# Altium footprint library MT25QL256ABA1EW9-0SIT.PcbLib: 2 footprints
Each footprint in its own frame and in the unit in brackets; x right, y up, seen from the top. Pads: shape width x height; smd on the part's side, far side on the other; paste and mask are expansions set on the pad; w line width, h text height; cw(c..) or ccw(c..) is an arc to the next point about the centre after c.
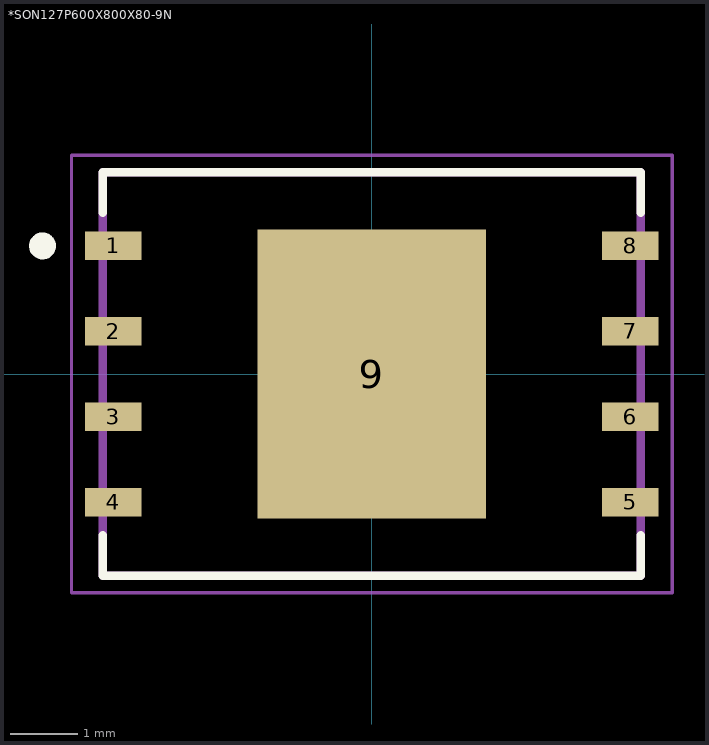
[diagram p0: the footprints below, top view; thin cyan lines are the x and y axes]

## *SON127P600X800X80-9N [mm]
pads (9):
  rect 0.84x0.42 smd: 1(-3.845,1.905) 2(-3.845,0.635) 3(-3.845,-0.635) 4(-3.845,-1.905) 5(3.845,-1.905) 6(3.845,-0.635) 7(3.845,0.635) 8(3.845,1.905)
  rect 3.4x4.3 smd: 9(0,0)
Top Overlay:
  circle w0.2: c-4.895,1.905 r0.1
  lines w0.127: -4,-2.4 -4,-3 4,-3 4,-2.4 ; -4,2.4 -4,3 4,3 4,2.4
Top Paste:
  region: -1.336,-0.185 -0.185,-0.185 -0.185,-1.787 -1.336,-1.787
  region: 0.185,1.785 1.335,1.785 1.335,0.185 0.185,0.185
  region: 0.185,-0.185 1.335,-0.185 1.335,-1.787 0.185,-1.787
  region: -1.335,1.785 -0.185,1.785 -0.185,0.185 -1.335,0.185
Mechanical 4:
  lines w0.127: -4,-3 -4,3 ; -4,-3 4,-3 ; -4,-3 -4,3 ; -4,-3 4,-3 ; -4,3 4,3 ; -4,3 4,3 ; 4,-3 4,3 ; 4,-3 4,3
Mechanical 16:
  lines w0.05: -4.465,-3.25 -4.465,3.25 4.465,3.25 4.465,-3.25 -4.465,-3.25

## PCBComponent_1 [mil]